# Altium integrated library Linear Technology Power Management Hot Swap Controllers.IntLib: 992 symbols (part 30 of 93)
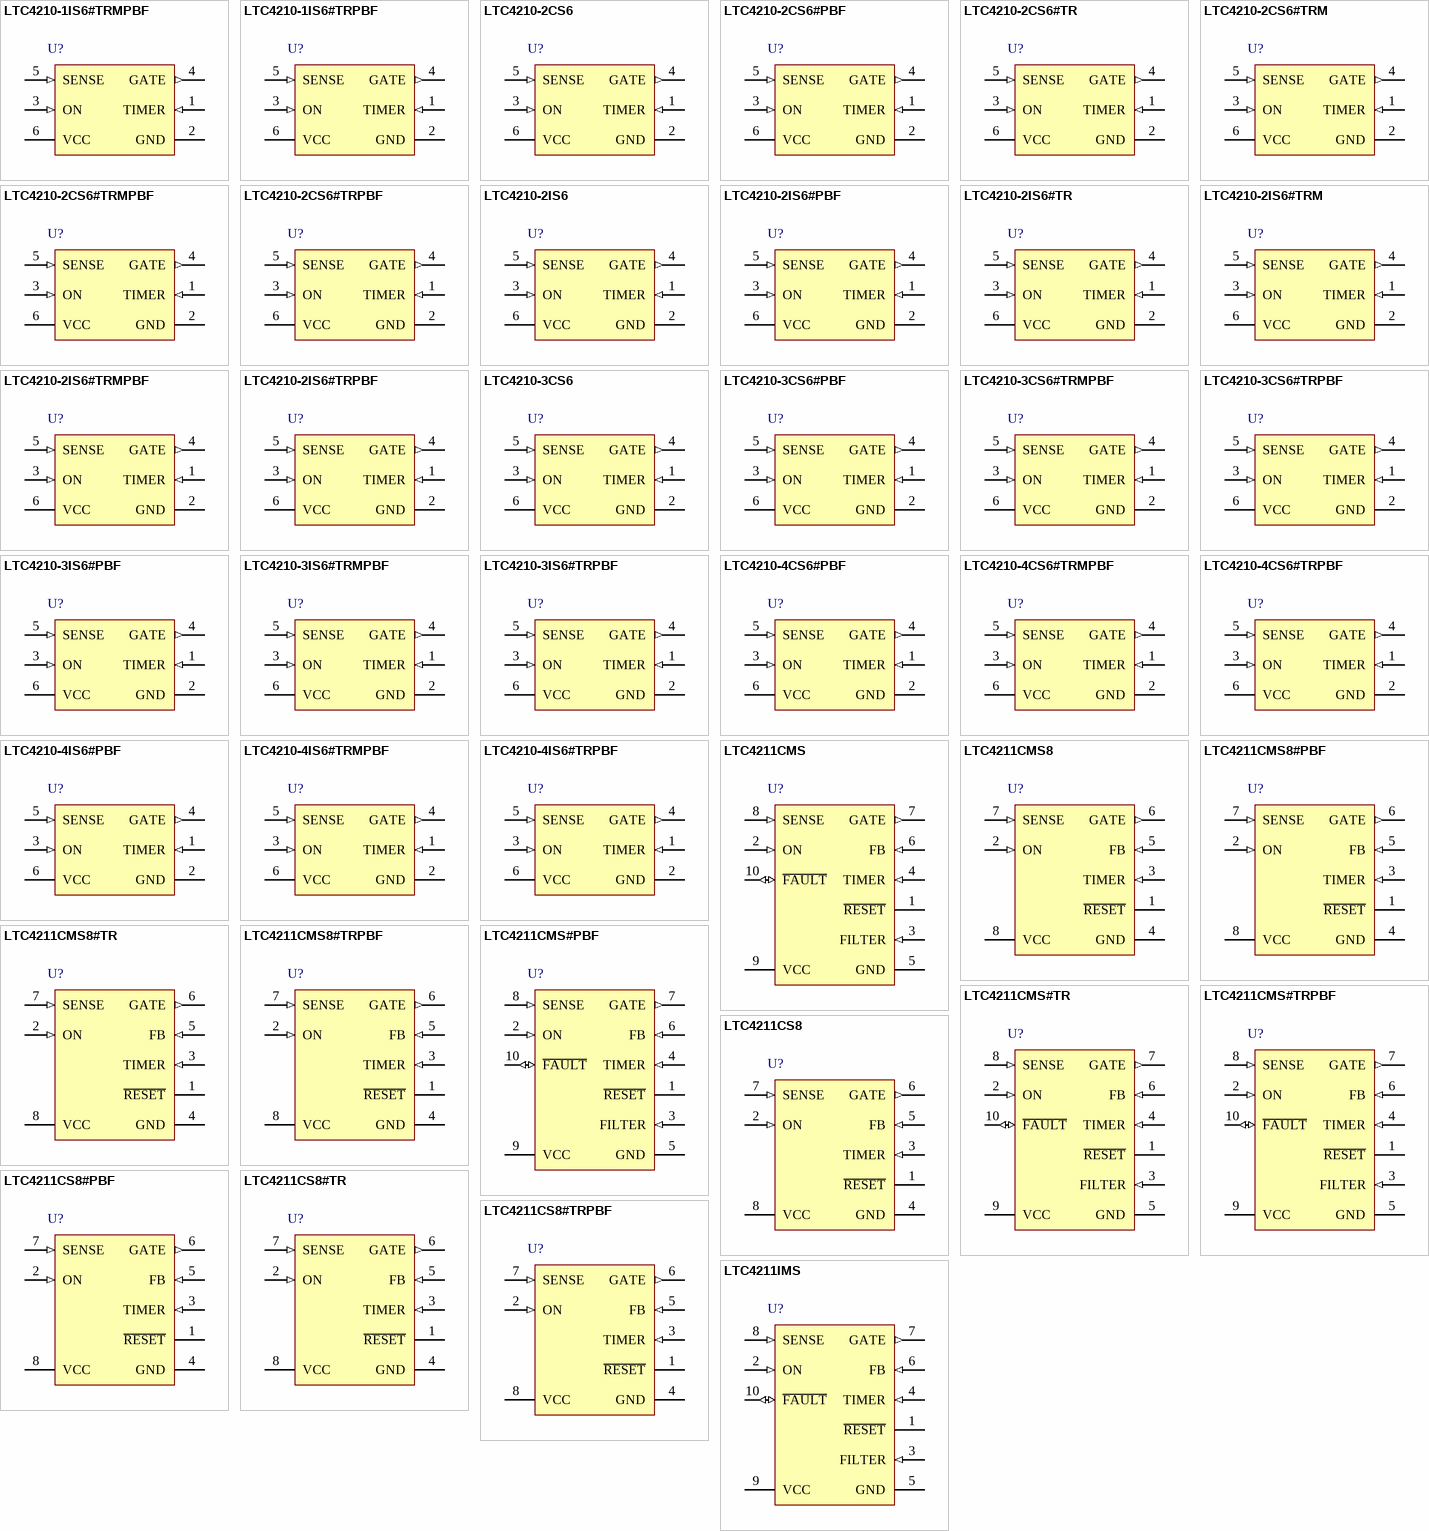
[diagram p66: symbols LTC4210-1IS6#TRMPBF to LTC4211IMS]

## LTC4210-3CS6#TRMPBF
designator U?
Hot Swap Controller, 2.7 to 7 V Vin, 6-pin SOT23 (S6-6), 0 to 70 degC, Pb-Free, Mini Tape and Reel; Manufacturer: Linear Technology; PartNumber: LTC4210-3CS6#TRMPBF; Active Limiting: yes; Circuit Breaker Accuracy(%): 12; Circuit Breaker Threshold: 50 mV; Circuit Breakers(#): 1; Extended Temp: C, I; Foldback: no; DatasheetVersion: Rev. A; PackageVersion: Jun-10; PackageReference: S6-6; PackageDescription: 6-Pin Plastic TSOT-23, Body 2.9 x 1.63 mm, Pitch 0.95 mm; Supplier 1: Digi-Key; Supplier Part Number 1: LTC4210-3CS6#TRMPBF-ND; Supplier 2: Newark; Supplier Part Number 2: 56M8753; Fast Comparator: yes; Fault: yes; Packing: Mini Tape and Reel; Power Good: no; Reset: yes; RoHS: TRUE; Vin Range: 2.7 to 7 V; Mounting Technology: Surface Mount; Code_JEDEC: MO-193; ComponentLink1Description: Manufacturer URL; ComponentLink1URL: http://www.linear.com/; ComponentLink2Description: Datasheet; ComponentLink2URL: http://cds.linear.com/docs/en/datasheet/421034fa.pdf; ComponentLink3Description: Package Specification; ComponentLink3URL: http://cds.linear.com/docs/en/packaging/SOT_6_05-08-1636.pdf
footprint LT-S6-6-TSOT-23_N (SOT23, 6-Leads, Body 2.9x1.75mm, Pitch 0.95mm, IPC Medium Density)
footprint LT-S6-6-TSOT-23_L (SOT23, 6-Leads, Body 2.9x1.75mm, Pitch 0.95mm, IPC High Density)
footprint LT-S6-6-TSOT-23_M (SOT23, 6-Leads, Body 2.9x1.75mm, Pitch 0.95mm, IPC Low Density)
pins: 1 TIMER (in) "Timer Input Pin. An external capacitor CTIMER sets a 272.9ms/µF initial timing delay and a 21.7ms/µF circuit breaker delay. (See Datasheet)", 2 GND (power) "GND (Pin 2): Ground Pin.", 3 ON (in) "ON (Pin 3): ON Input Pin. The ON pin comparator has a low-to-high threshold of 1.3V with 80mV hysteresis and a glitch filter. When the ON pin is low, the LTC4210 is reset. When the ON pin goes high, the GATE turns on after (See Datasheet)", 4 GATE (out) "GATE Output Pin. This pin is the high side gate drive of an external N-channel MOSFET. An internal charge pump provides a 10µA pull-up current with Zener clamps to VCC and ground. (See Datasheet)", 5 SENSE (in) "SENSE (Pin 5): Current Limit Sense Input Pin. A sense resistor between the VCC and SENSE pins sets the analog current limit. In overload, the EA controls the external MOSFET gate to maintain the SENSE pin voltage at 50mV (See Datasheet)", 6 VCC (power) "Positive Supply Input Pin. The operating supply voltage range is between 2.7V to 7V. An undervoltage lockout (UVLO) circuit with a glitch filter resets the LTC4210 when a low supply voltage is detected. (See Datasheet)"

## LTC4210-3CS6#TRPBF
designator U?
Hot Swap Controller, 2.7 to 7 V Vin, 6-pin SOT23 (S6-6), 0 to 70 degC, Pb-Free, Tape and Reel; Manufacturer: Linear Technology; PartNumber: LTC4210-3CS6#TRPBF; Active Limiting: yes; Circuit Breaker Accuracy(%): 12; Circuit Breaker Threshold: 50 mV; Circuit Breakers(#): 1; Extended Temp: C, I; Foldback: no; DatasheetVersion: Rev. A; PackageVersion: Jun-10; PackageReference: S6-6; PackageDescription: 6-Pin Plastic TSOT-23, Body 2.9 x 1.63 mm, Pitch 0.95 mm; Supplier 1: Digi-Key; Supplier Part Number 1: LTC4210-3CS6#TRPBF-ND; Fast Comparator: yes; Fault: yes; Packing: Tape and Reel; Power Good: no; Reset: yes; RoHS: TRUE; Vin Range: 2.7 to 7 V; Mounting Technology: Surface Mount; Code_JEDEC: MO-193; ComponentLink1Description: Manufacturer URL; ComponentLink1URL: http://www.linear.com/; ComponentLink2Description: Datasheet; ComponentLink2URL: http://cds.linear.com/docs/en/datasheet/421034fa.pdf; ComponentLink3Description: Package Specification; ComponentLink3URL: http://cds.linear.com/docs/en/packaging/SOT_6_05-08-1636.pdf
footprint LT-S6-6-TSOT-23_N (SOT23, 6-Leads, Body 2.9x1.75mm, Pitch 0.95mm, IPC Medium Density)
footprint LT-S6-6-TSOT-23_L (SOT23, 6-Leads, Body 2.9x1.75mm, Pitch 0.95mm, IPC High Density)
footprint LT-S6-6-TSOT-23_M (SOT23, 6-Leads, Body 2.9x1.75mm, Pitch 0.95mm, IPC Low Density)
pins: 1 TIMER (in) "Timer Input Pin. An external capacitor CTIMER sets a 272.9ms/µF initial timing delay and a 21.7ms/µF circuit breaker delay. (See Datasheet)", 2 GND (power) "GND (Pin 2): Ground Pin.", 3 ON (in) "ON (Pin 3): ON Input Pin. The ON pin comparator has a low-to-high threshold of 1.3V with 80mV hysteresis and a glitch filter. When the ON pin is low, the LTC4210 is reset. When the ON pin goes high, the GATE turns on after (See Datasheet)", 4 GATE (out) "GATE Output Pin. This pin is the high side gate drive of an external N-channel MOSFET. An internal charge pump provides a 10µA pull-up current with Zener clamps to VCC and ground. (See Datasheet)", 5 SENSE (in) "SENSE (Pin 5): Current Limit Sense Input Pin. A sense resistor between the VCC and SENSE pins sets the analog current limit. In overload, the EA controls the external MOSFET gate to maintain the SENSE pin voltage at 50mV (See Datasheet)", 6 VCC (power) "Positive Supply Input Pin. The operating supply voltage range is between 2.7V to 7V. An undervoltage lockout (UVLO) circuit with a glitch filter resets the LTC4210 when a low supply voltage is detected. (See Datasheet)"

## LTC4210-3IS6#PBF
designator U?
Hot Swap Controller, 2.7 to 7 V Vin, 6-pin SOT23 (S6-6), -40 to 85 degC, Pb-Free; Manufacturer: Linear Technology; PartNumber: LTC4210-3IS6#PBF; Active Limiting: yes; Circuit Breaker Accuracy(%): 12; Circuit Breaker Threshold: 50 mV; Circuit Breakers(#): 1; Extended Temp: C, I; Foldback: no; DatasheetVersion: Rev. A; PackageVersion: Jun-10; PackageReference: S6-6; PackageDescription: 6-Pin Plastic TSOT-23, Body 2.9 x 1.63 mm, Pitch 0.95 mm; Fast Comparator: yes; Fault: yes; Power Good: no; Reset: yes; RoHS: TRUE; Vin Range: 2.7 to 7 V; Mounting Technology: Surface Mount; Code_JEDEC: MO-193; ComponentLink1Description: Manufacturer URL; ComponentLink1URL: http://www.linear.com/; ComponentLink2Description: Datasheet; ComponentLink2URL: http://cds.linear.com/docs/en/datasheet/421034fa.pdf; ComponentLink3Description: Package Specification; ComponentLink3URL: http://cds.linear.com/docs/en/packaging/SOT_6_05-08-1636.pdf
footprint LT-S6-6-TSOT-23_N (SOT23, 6-Leads, Body 2.9x1.75mm, Pitch 0.95mm, IPC Medium Density)
footprint LT-S6-6-TSOT-23_L (SOT23, 6-Leads, Body 2.9x1.75mm, Pitch 0.95mm, IPC High Density)
footprint LT-S6-6-TSOT-23_M (SOT23, 6-Leads, Body 2.9x1.75mm, Pitch 0.95mm, IPC Low Density)
pins: 1 TIMER (in) "Timer Input Pin. An external capacitor CTIMER sets a 272.9ms/µF initial timing delay and a 21.7ms/µF circuit breaker delay. (See Datasheet)", 2 GND (power) "GND (Pin 2): Ground Pin.", 3 ON (in) "ON (Pin 3): ON Input Pin. The ON pin comparator has a low-to-high threshold of 1.3V with 80mV hysteresis and a glitch filter. When the ON pin is low, the LTC4210 is reset. When the ON pin goes high, the GATE turns on after (See Datasheet)", 4 GATE (out) "GATE Output Pin. This pin is the high side gate drive of an external N-channel MOSFET. An internal charge pump provides a 10µA pull-up current with Zener clamps to VCC and ground. (See Datasheet)", 5 SENSE (in) "SENSE (Pin 5): Current Limit Sense Input Pin. A sense resistor between the VCC and SENSE pins sets the analog current limit. In overload, the EA controls the external MOSFET gate to maintain the SENSE pin voltage at 50mV (See Datasheet)", 6 VCC (power) "Positive Supply Input Pin. The operating supply voltage range is between 2.7V to 7V. An undervoltage lockout (UVLO) circuit with a glitch filter resets the LTC4210 when a low supply voltage is detected. (See Datasheet)"

## LTC4210-3IS6#TRMPBF
designator U?
Hot Swap Controller, 2.7 to 7 V Vin, 6-pin SOT23 (S6-6), -40 to 85 degC, Pb-Free, Mini Tape and Reel; Manufacturer: Linear Technology; PartNumber: LTC4210-3IS6#TRMPBF; Active Limiting: yes; Circuit Breaker Accuracy(%): 12; Circuit Breaker Threshold: 50 mV; Circuit Breakers(#): 1; Extended Temp: C, I; Foldback: no; DatasheetVersion: Rev. A; PackageVersion: Jun-10; PackageReference: S6-6; PackageDescription: 6-Pin Plastic TSOT-23, Body 2.9 x 1.63 mm, Pitch 0.95 mm; Supplier 1: Digi-Key; Supplier Part Number 1: LTC4210-3IS6#TRMPBF-ND; Fast Comparator: yes; Fault: yes; Packing: Mini Tape and Reel; Power Good: no; Reset: yes; RoHS: TRUE; Vin Range: 2.7 to 7 V; Mounting Technology: Surface Mount; Code_JEDEC: MO-193; ComponentLink1Description: Manufacturer URL; ComponentLink1URL: http://www.linear.com/; ComponentLink2Description: Datasheet; ComponentLink2URL: http://cds.linear.com/docs/en/datasheet/421034fa.pdf; ComponentLink3Description: Package Specification; ComponentLink3URL: http://cds.linear.com/docs/en/packaging/SOT_6_05-08-1636.pdf
footprint LT-S6-6-TSOT-23_N (SOT23, 6-Leads, Body 2.9x1.75mm, Pitch 0.95mm, IPC Medium Density)
footprint LT-S6-6-TSOT-23_L (SOT23, 6-Leads, Body 2.9x1.75mm, Pitch 0.95mm, IPC High Density)
footprint LT-S6-6-TSOT-23_M (SOT23, 6-Leads, Body 2.9x1.75mm, Pitch 0.95mm, IPC Low Density)
pins: 1 TIMER (in) "Timer Input Pin. An external capacitor CTIMER sets a 272.9ms/µF initial timing delay and a 21.7ms/µF circuit breaker delay. (See Datasheet)", 2 GND (power) "GND (Pin 2): Ground Pin.", 3 ON (in) "ON (Pin 3): ON Input Pin. The ON pin comparator has a low-to-high threshold of 1.3V with 80mV hysteresis and a glitch filter. When the ON pin is low, the LTC4210 is reset. When the ON pin goes high, the GATE turns on after (See Datasheet)", 4 GATE (out) "GATE Output Pin. This pin is the high side gate drive of an external N-channel MOSFET. An internal charge pump provides a 10µA pull-up current with Zener clamps to VCC and ground. (See Datasheet)", 5 SENSE (in) "SENSE (Pin 5): Current Limit Sense Input Pin. A sense resistor between the VCC and SENSE pins sets the analog current limit. In overload, the EA controls the external MOSFET gate to maintain the SENSE pin voltage at 50mV (See Datasheet)", 6 VCC (power) "Positive Supply Input Pin. The operating supply voltage range is between 2.7V to 7V. An undervoltage lockout (UVLO) circuit with a glitch filter resets the LTC4210 when a low supply voltage is detected. (See Datasheet)"

## LTC4210-3IS6#TRPBF
designator U?
Hot Swap Controller, 2.7 to 7 V Vin, 6-pin SOT23 (S6-6), -40 to 85 degC, Pb-Free, Tape and Reel; Manufacturer: Linear Technology; PartNumber: LTC4210-3IS6#TRPBF; Active Limiting: yes; Circuit Breaker Accuracy(%): 12; Circuit Breaker Threshold: 50 mV; Circuit Breakers(#): 1; Extended Temp: C, I; Foldback: no; DatasheetVersion: Rev. A; PackageVersion: Jun-10; PackageReference: S6-6; PackageDescription: 6-Pin Plastic TSOT-23, Body 2.9 x 1.63 mm, Pitch 0.95 mm; Supplier 1: Digi-Key; Supplier Part Number 1: LTC4210-3IS6#TRPBF-ND; Supplier 2: Newark; Supplier Part Number 2: 56M8758; Fast Comparator: yes; Fault: yes; Packing: Tape and Reel; Power Good: no; Reset: yes; RoHS: TRUE; Vin Range: 2.7 to 7 V; Mounting Technology: Surface Mount; Code_JEDEC: MO-193; ComponentLink1Description: Manufacturer URL; ComponentLink1URL: http://www.linear.com/; ComponentLink2Description: Datasheet; ComponentLink2URL: http://cds.linear.com/docs/en/datasheet/421034fa.pdf; ComponentLink3Description: Package Specification; ComponentLink3URL: http://cds.linear.com/docs/en/packaging/SOT_6_05-08-1636.pdf
footprint LT-S6-6-TSOT-23_N (SOT23, 6-Leads, Body 2.9x1.75mm, Pitch 0.95mm, IPC Medium Density)
footprint LT-S6-6-TSOT-23_L (SOT23, 6-Leads, Body 2.9x1.75mm, Pitch 0.95mm, IPC High Density)
footprint LT-S6-6-TSOT-23_M (SOT23, 6-Leads, Body 2.9x1.75mm, Pitch 0.95mm, IPC Low Density)
pins: 1 TIMER (in) "Timer Input Pin. An external capacitor CTIMER sets a 272.9ms/µF initial timing delay and a 21.7ms/µF circuit breaker delay. (See Datasheet)", 2 GND (power) "GND (Pin 2): Ground Pin.", 3 ON (in) "ON (Pin 3): ON Input Pin. The ON pin comparator has a low-to-high threshold of 1.3V with 80mV hysteresis and a glitch filter. When the ON pin is low, the LTC4210 is reset. When the ON pin goes high, the GATE turns on after (See Datasheet)", 4 GATE (out) "GATE Output Pin. This pin is the high side gate drive of an external N-channel MOSFET. An internal charge pump provides a 10µA pull-up current with Zener clamps to VCC and ground. (See Datasheet)", 5 SENSE (in) "SENSE (Pin 5): Current Limit Sense Input Pin. A sense resistor between the VCC and SENSE pins sets the analog current limit. In overload, the EA controls the external MOSFET gate to maintain the SENSE pin voltage at 50mV (See Datasheet)", 6 VCC (power) "Positive Supply Input Pin. The operating supply voltage range is between 2.7V to 7V. An undervoltage lockout (UVLO) circuit with a glitch filter resets the LTC4210 when a low supply voltage is detected. (See Datasheet)"

## LTC4210-4CS6#PBF
designator U?
Hot Swap Controller, 2.7 to 7 V Vin, 6-pin SOT23 (S6-6), 0 to 70 degC, Pb-Free; Manufacturer: Linear Technology; PartNumber: LTC4210-4CS6#PBF; Active Limiting: yes; Circuit Breaker Accuracy(%): 12; Circuit Breaker Threshold: 50 mV; Circuit Breakers(#): 1; Extended Temp: C, I; Foldback: no; DatasheetVersion: Rev. A; PackageVersion: Jun-10; PackageReference: S6-6; PackageDescription: 6-Pin Plastic TSOT-23, Body 2.9 x 1.63 mm, Pitch 0.95 mm; Fast Comparator: yes; Fault: yes; Power Good: no; Reset: yes; RoHS: TRUE; Vin Range: 2.7 to 7 V; Mounting Technology: Surface Mount; Code_JEDEC: MO-193; ComponentLink1Description: Manufacturer URL; ComponentLink1URL: http://www.linear.com/; ComponentLink2Description: Datasheet; ComponentLink2URL: http://cds.linear.com/docs/en/datasheet/421034fa.pdf; ComponentLink3Description: Package Specification; ComponentLink3URL: http://cds.linear.com/docs/en/packaging/SOT_6_05-08-1636.pdf
footprint LT-S6-6-TSOT-23_N (SOT23, 6-Leads, Body 2.9x1.75mm, Pitch 0.95mm, IPC Medium Density)
footprint LT-S6-6-TSOT-23_L (SOT23, 6-Leads, Body 2.9x1.75mm, Pitch 0.95mm, IPC High Density)
footprint LT-S6-6-TSOT-23_M (SOT23, 6-Leads, Body 2.9x1.75mm, Pitch 0.95mm, IPC Low Density)
pins: 1 TIMER (in) "Timer Input Pin. An external capacitor CTIMER sets a 272.9ms/µF initial timing delay and a 21.7ms/µF circuit breaker delay. (See Datasheet)", 2 GND (power) "GND (Pin 2): Ground Pin.", 3 ON (in) "ON (Pin 3): ON Input Pin. The ON pin comparator has a low-to-high threshold of 1.3V with 80mV hysteresis and a glitch filter. When the ON pin is low, the LTC4210 is reset. When the ON pin goes high, the GATE turns on after (See Datasheet)", 4 GATE (out) "GATE Output Pin. This pin is the high side gate drive of an external N-channel MOSFET. An internal charge pump provides a 10µA pull-up current with Zener clamps to VCC and ground. (See Datasheet)", 5 SENSE (in) "SENSE (Pin 5): Current Limit Sense Input Pin. A sense resistor between the VCC and SENSE pins sets the analog current limit. In overload, the EA controls the external MOSFET gate to maintain the SENSE pin voltage at 50mV (See Datasheet)", 6 VCC (power) "Positive Supply Input Pin. The operating supply voltage range is between 2.7V to 7V. An undervoltage lockout (UVLO) circuit with a glitch filter resets the LTC4210 when a low supply voltage is detected. (See Datasheet)"

## LTC4210-4CS6#TRMPBF
designator U?
Hot Swap Controller, 2.7 to 7 V Vin, 6-pin SOT23 (S6-6), 0 to 70 degC, Pb-Free, Mini Tape and Reel; Manufacturer: Linear Technology; PartNumber: LTC4210-4CS6#TRMPBF; Active Limiting: yes; Circuit Breaker Accuracy(%): 12; Circuit Breaker Threshold: 50 mV; Circuit Breakers(#): 1; Extended Temp: C, I; Foldback: no; DatasheetVersion: Rev. A; PackageVersion: Jun-10; PackageReference: S6-6; PackageDescription: 6-Pin Plastic TSOT-23, Body 2.9 x 1.63 mm, Pitch 0.95 mm; Supplier 1: Digi-Key; Supplier Part Number 1: LTC4210-4CS6#TRMPBF-ND; Fast Comparator: yes; Fault: yes; Packing: Mini Tape and Reel; Power Good: no; Reset: yes; RoHS: TRUE; Vin Range: 2.7 to 7 V; Mounting Technology: Surface Mount; Code_JEDEC: MO-193; ComponentLink1Description: Manufacturer URL; ComponentLink1URL: http://www.linear.com/; ComponentLink2Description: Datasheet; ComponentLink2URL: http://cds.linear.com/docs/en/datasheet/421034fa.pdf; ComponentLink3Description: Package Specification; ComponentLink3URL: http://cds.linear.com/docs/en/packaging/SOT_6_05-08-1636.pdf
footprint LT-S6-6-TSOT-23_N (SOT23, 6-Leads, Body 2.9x1.75mm, Pitch 0.95mm, IPC Medium Density)
footprint LT-S6-6-TSOT-23_L (SOT23, 6-Leads, Body 2.9x1.75mm, Pitch 0.95mm, IPC High Density)
footprint LT-S6-6-TSOT-23_M (SOT23, 6-Leads, Body 2.9x1.75mm, Pitch 0.95mm, IPC Low Density)
pins: 1 TIMER (in) "Timer Input Pin. An external capacitor CTIMER sets a 272.9ms/µF initial timing delay and a 21.7ms/µF circuit breaker delay. (See Datasheet)", 2 GND (power) "GND (Pin 2): Ground Pin.", 3 ON (in) "ON (Pin 3): ON Input Pin. The ON pin comparator has a low-to-high threshold of 1.3V with 80mV hysteresis and a glitch filter. When the ON pin is low, the LTC4210 is reset. When the ON pin goes high, the GATE turns on after (See Datasheet)", 4 GATE (out) "GATE Output Pin. This pin is the high side gate drive of an external N-channel MOSFET. An internal charge pump provides a 10µA pull-up current with Zener clamps to VCC and ground. (See Datasheet)", 5 SENSE (in) "SENSE (Pin 5): Current Limit Sense Input Pin. A sense resistor between the VCC and SENSE pins sets the analog current limit. In overload, the EA controls the external MOSFET gate to maintain the SENSE pin voltage at 50mV (See Datasheet)", 6 VCC (power) "Positive Supply Input Pin. The operating supply voltage range is between 2.7V to 7V. An undervoltage lockout (UVLO) circuit with a glitch filter resets the LTC4210 when a low supply voltage is detected. (See Datasheet)"

## LTC4210-4CS6#TRPBF
designator U?
Hot Swap Controller, 2.7 to 7 V Vin, 6-pin SOT23 (S6-6), 0 to 70 degC, Pb-Free, Tape and Reel; Manufacturer: Linear Technology; PartNumber: LTC4210-4CS6#TRPBF; Active Limiting: yes; Circuit Breaker Accuracy(%): 12; Circuit Breaker Threshold: 50 mV; Circuit Breakers(#): 1; Extended Temp: C, I; Foldback: no; DatasheetVersion: Rev. A; PackageVersion: Jun-10; PackageReference: S6-6; PackageDescription: 6-Pin Plastic TSOT-23, Body 2.9 x 1.63 mm, Pitch 0.95 mm; Supplier 1: Digi-Key; Supplier Part Number 1: LTC4210-4CS6#TRPBF-ND; Fast Comparator: yes; Fault: yes; Packing: Tape and Reel; Power Good: no; Reset: yes; RoHS: TRUE; Vin Range: 2.7 to 7 V; Mounting Technology: Surface Mount; Code_JEDEC: MO-193; ComponentLink1Description: Manufacturer URL; ComponentLink1URL: http://www.linear.com/; ComponentLink2Description: Datasheet; ComponentLink2URL: http://cds.linear.com/docs/en/datasheet/421034fa.pdf; ComponentLink3Description: Package Specification; ComponentLink3URL: http://cds.linear.com/docs/en/packaging/SOT_6_05-08-1636.pdf
footprint LT-S6-6-TSOT-23_N (SOT23, 6-Leads, Body 2.9x1.75mm, Pitch 0.95mm, IPC Medium Density)
footprint LT-S6-6-TSOT-23_L (SOT23, 6-Leads, Body 2.9x1.75mm, Pitch 0.95mm, IPC High Density)
footprint LT-S6-6-TSOT-23_M (SOT23, 6-Leads, Body 2.9x1.75mm, Pitch 0.95mm, IPC Low Density)
pins: 1 TIMER (in) "Timer Input Pin. An external capacitor CTIMER sets a 272.9ms/µF initial timing delay and a 21.7ms/µF circuit breaker delay. (See Datasheet)", 2 GND (power) "GND (Pin 2): Ground Pin.", 3 ON (in) "ON (Pin 3): ON Input Pin. The ON pin comparator has a low-to-high threshold of 1.3V with 80mV hysteresis and a glitch filter. When the ON pin is low, the LTC4210 is reset. When the ON pin goes high, the GATE turns on after (See Datasheet)", 4 GATE (out) "GATE Output Pin. This pin is the high side gate drive of an external N-channel MOSFET. An internal charge pump provides a 10µA pull-up current with Zener clamps to VCC and ground. (See Datasheet)", 5 SENSE (in) "SENSE (Pin 5): Current Limit Sense Input Pin. A sense resistor between the VCC and SENSE pins sets the analog current limit. In overload, the EA controls the external MOSFET gate to maintain the SENSE pin voltage at 50mV (See Datasheet)", 6 VCC (power) "Positive Supply Input Pin. The operating supply voltage range is between 2.7V to 7V. An undervoltage lockout (UVLO) circuit with a glitch filter resets the LTC4210 when a low supply voltage is detected. (See Datasheet)"

## LTC4210-4IS6#PBF
designator U?
Hot Swap Controller, 2.7 to 7 V Vin, 6-pin SOT23 (S6-6), -40 to 85 degC, Pb-Free; Manufacturer: Linear Technology; PartNumber: LTC4210-4IS6#PBF; Active Limiting: yes; Circuit Breaker Accuracy(%): 12; Circuit Breaker Threshold: 50 mV; Circuit Breakers(#): 1; Extended Temp: C, I; Foldback: no; DatasheetVersion: Rev. A; PackageVersion: Jun-10; PackageReference: S6-6; PackageDescription: 6-Pin Plastic TSOT-23, Body 2.9 x 1.63 mm, Pitch 0.95 mm; Fast Comparator: yes; Fault: yes; Power Good: no; Reset: yes; RoHS: TRUE; Vin Range: 2.7 to 7 V; Mounting Technology: Surface Mount; Code_JEDEC: MO-193; ComponentLink1Description: Manufacturer URL; ComponentLink1URL: http://www.linear.com/; ComponentLink2Description: Datasheet; ComponentLink2URL: http://cds.linear.com/docs/en/datasheet/421034fa.pdf; ComponentLink3Description: Package Specification; ComponentLink3URL: http://cds.linear.com/docs/en/packaging/SOT_6_05-08-1636.pdf
footprint LT-S6-6-TSOT-23_N (SOT23, 6-Leads, Body 2.9x1.75mm, Pitch 0.95mm, IPC Medium Density)
footprint LT-S6-6-TSOT-23_L (SOT23, 6-Leads, Body 2.9x1.75mm, Pitch 0.95mm, IPC High Density)
footprint LT-S6-6-TSOT-23_M (SOT23, 6-Leads, Body 2.9x1.75mm, Pitch 0.95mm, IPC Low Density)
pins: 1 TIMER (in) "Timer Input Pin. An external capacitor CTIMER sets a 272.9ms/µF initial timing delay and a 21.7ms/µF circuit breaker delay. (See Datasheet)", 2 GND (power) "GND (Pin 2): Ground Pin.", 3 ON (in) "ON (Pin 3): ON Input Pin. The ON pin comparator has a low-to-high threshold of 1.3V with 80mV hysteresis and a glitch filter. When the ON pin is low, the LTC4210 is reset. When the ON pin goes high, the GATE turns on after (See Datasheet)", 4 GATE (out) "GATE Output Pin. This pin is the high side gate drive of an external N-channel MOSFET. An internal charge pump provides a 10µA pull-up current with Zener clamps to VCC and ground. (See Datasheet)", 5 SENSE (in) "SENSE (Pin 5): Current Limit Sense Input Pin. A sense resistor between the VCC and SENSE pins sets the analog current limit. In overload, the EA controls the external MOSFET gate to maintain the SENSE pin voltage at 50mV (See Datasheet)", 6 VCC (power) "Positive Supply Input Pin. The operating supply voltage range is between 2.7V to 7V. An undervoltage lockout (UVLO) circuit with a glitch filter resets the LTC4210 when a low supply voltage is detected. (See Datasheet)"

## LTC4210-4IS6#TRMPBF
designator U?
Hot Swap Controller, 2.7 to 7 V Vin, 6-pin SOT23 (S6-6), -40 to 85 degC, Pb-Free, Mini Tape and Reel; Manufacturer: Linear Technology; PartNumber: LTC4210-4IS6#TRMPBF; Active Limiting: yes; Circuit Breaker Accuracy(%): 12; Circuit Breaker Threshold: 50 mV; Circuit Breakers(#): 1; Extended Temp: C, I; Foldback: no; DatasheetVersion: Rev. A; PackageVersion: Jun-10; PackageReference: S6-6; PackageDescription: 6-Pin Plastic TSOT-23, Body 2.9 x 1.63 mm, Pitch 0.95 mm; Supplier 1: Digi-Key; Supplier Part Number 1: LTC4210-4IS6#TRMPBF-ND; Fast Comparator: yes; Fault: yes; Packing: Mini Tape and Reel; Power Good: no; Reset: yes; RoHS: TRUE; Vin Range: 2.7 to 7 V; Mounting Technology: Surface Mount; Code_JEDEC: MO-193; ComponentLink1Description: Manufacturer URL; ComponentLink1URL: http://www.linear.com/; ComponentLink2Description: Datasheet; ComponentLink2URL: http://cds.linear.com/docs/en/datasheet/421034fa.pdf; ComponentLink3Description: Package Specification; ComponentLink3URL: http://cds.linear.com/docs/en/packaging/SOT_6_05-08-1636.pdf
footprint LT-S6-6-TSOT-23_N (SOT23, 6-Leads, Body 2.9x1.75mm, Pitch 0.95mm, IPC Medium Density)
footprint LT-S6-6-TSOT-23_L (SOT23, 6-Leads, Body 2.9x1.75mm, Pitch 0.95mm, IPC High Density)
footprint LT-S6-6-TSOT-23_M (SOT23, 6-Leads, Body 2.9x1.75mm, Pitch 0.95mm, IPC Low Density)
pins: 1 TIMER (in) "Timer Input Pin. An external capacitor CTIMER sets a 272.9ms/µF initial timing delay and a 21.7ms/µF circuit breaker delay. (See Datasheet)", 2 GND (power) "GND (Pin 2): Ground Pin.", 3 ON (in) "ON (Pin 3): ON Input Pin. The ON pin comparator has a low-to-high threshold of 1.3V with 80mV hysteresis and a glitch filter. When the ON pin is low, the LTC4210 is reset. When the ON pin goes high, the GATE turns on after (See Datasheet)", 4 GATE (out) "GATE Output Pin. This pin is the high side gate drive of an external N-channel MOSFET. An internal charge pump provides a 10µA pull-up current with Zener clamps to VCC and ground. (See Datasheet)", 5 SENSE (in) "SENSE (Pin 5): Current Limit Sense Input Pin. A sense resistor between the VCC and SENSE pins sets the analog current limit. In overload, the EA controls the external MOSFET gate to maintain the SENSE pin voltage at 50mV (See Datasheet)", 6 VCC (power) "Positive Supply Input Pin. The operating supply voltage range is between 2.7V to 7V. An undervoltage lockout (UVLO) circuit with a glitch filter resets the LTC4210 when a low supply voltage is detected. (See Datasheet)"

## LTC4210-4IS6#TRPBF
designator U?
Hot Swap Controller, 2.7 to 7 V Vin, 6-pin SOT23 (S6-6), -40 to 85 degC, Pb-Free, Tape and Reel; Manufacturer: Linear Technology; PartNumber: LTC4210-4IS6#TRPBF; Active Limiting: yes; Circuit Breaker Accuracy(%): 12; Circuit Breaker Threshold: 50 mV; Circuit Breakers(#): 1; Extended Temp: C, I; Foldback: no; DatasheetVersion: Rev. A; PackageVersion: Jun-10; PackageReference: S6-6; PackageDescription: 6-Pin Plastic TSOT-23, Body 2.9 x 1.63 mm, Pitch 0.95 mm; Supplier 1: Digi-Key; Supplier Part Number 1: LTC4210-4IS6#TRPBF-ND; Fast Comparator: yes; Fault: yes; Packing: Tape and Reel; Power Good: no; Reset: yes; RoHS: TRUE; Vin Range: 2.7 to 7 V; Mounting Technology: Surface Mount; Code_JEDEC: MO-193; ComponentLink1Description: Manufacturer URL; ComponentLink1URL: http://www.linear.com/; ComponentLink2Description: Datasheet; ComponentLink2URL: http://cds.linear.com/docs/en/datasheet/421034fa.pdf; ComponentLink3Description: Package Specification; ComponentLink3URL: http://cds.linear.com/docs/en/packaging/SOT_6_05-08-1636.pdf
footprint LT-S6-6-TSOT-23_N (SOT23, 6-Leads, Body 2.9x1.75mm, Pitch 0.95mm, IPC Medium Density)
footprint LT-S6-6-TSOT-23_L (SOT23, 6-Leads, Body 2.9x1.75mm, Pitch 0.95mm, IPC High Density)
footprint LT-S6-6-TSOT-23_M (SOT23, 6-Leads, Body 2.9x1.75mm, Pitch 0.95mm, IPC Low Density)
pins: 1 TIMER (in) "Timer Input Pin. An external capacitor CTIMER sets a 272.9ms/µF initial timing delay and a 21.7ms/µF circuit breaker delay. (See Datasheet)", 2 GND (power) "GND (Pin 2): Ground Pin.", 3 ON (in) "ON (Pin 3): ON Input Pin. The ON pin comparator has a low-to-high threshold of 1.3V with 80mV hysteresis and a glitch filter. When the ON pin is low, the LTC4210 is reset. When the ON pin goes high, the GATE turns on after (See Datasheet)", 4 GATE (out) "GATE Output Pin. This pin is the high side gate drive of an external N-channel MOSFET. An internal charge pump provides a 10µA pull-up current with Zener clamps to VCC and ground. (See Datasheet)", 5 SENSE (in) "SENSE (Pin 5): Current Limit Sense Input Pin. A sense resistor between the VCC and SENSE pins sets the analog current limit. In overload, the EA controls the external MOSFET gate to maintain the SENSE pin voltage at 50mV (See Datasheet)", 6 VCC (power) "Positive Supply Input Pin. The operating supply voltage range is between 2.7V to 7V. An undervoltage lockout (UVLO) circuit with a glitch filter resets the LTC4210 when a low supply voltage is detected. (See Datasheet)"

## LTC4211CMS
designator U?
Hot Swap Controller with Multifunction Current Control, 2.5 to 16.5 V Vin, 10-pin SOP (MS-10), 0 to 70 degC; Manufacturer: Linear Technology; PartNumber: LTC4211CMS; Active Limiting: no; Circuit Breaker Accuracy(%): 20; Circuit Breaker Threshold: 50 mV; Circuit Breakers(#): 1; Extended Temp: C, I; Fast Comparator: yes; In-Rush Current: Active; DatasheetVersion: Rev. B; PackageVersion: Rev. E, 06/2010; PackageReference: MS-10; PackageDescription: 10-Pin Plastic MSOP, Body 3 x 3 mm, Pitch 0.5 mm; Supplier 1: Digi-Key; Supplier Part Number 1: LTC4211CMS-ND; Fault: yes; Foldback: no; Power Good: no; Reset: yes; RoHS: FALSE; Vin Range: 2.5 to 16.5 V; Mounting Technology: Surface Mount; ComponentLink1Description: Manufacturer URL; ComponentLink1URL: http://www.linear.com/; ComponentLink2Description: Datasheet; ComponentLink2URL: http://cds.linear.com/docs/en/datasheet/4211fb.pdf; ComponentLink3Description: Package Specification; ComponentLink3URL: http://cds.linear.com/docs/en/packaging/05081661_F_MS.pdf
footprint LT-MS-10_N (SOP, 10-Leads, Body 3.1x3.1mm, Pitch 0.5mm, IPC Medium Density)
footprint LT-MS-10_L (SOP, 10-Leads, Body 3.1x3.1mm, Pitch 0.5mm, IPC High Density)
footprint LT-MS-10_M (SOP, 10-Leads, Body 3.1x3.1mm, Pitch 0.5mm, IPC Low Density)
pins: 1 ~{RESET} (hiz) "R\E\S\E\T\ (Pin 1/Pin 1): An open-drain output that pulls to GND if the voltage at the FB pin (Pin 5/Pin 6) falls below the FB pin threshold (1.236V). During the start-up cycle, the R\E\S\E\T\ pin goes high impedance at the (See Datasheet)", 2 ON (in) "ON (Pin 2/Pin 2): An active high signal used to enable or disable LTC4211 operation. COMP1’s high-to-low threshold is set at 1.236V and its hysteresis is set at 80mV. If a logic high signal is applied to the ON pin (VON (See Datasheet)", 3 FILTER (in) "FILTER (Not available S8/MS8, Pin 3 MS): Overcurrent Fault Timing Pin and Overvoltage Fault Set pin. With a capacitor connected from this pin to ground, the SLOW COMP’s response time can be adjusted. In the S8/MS8 versio(See Datasheet)", 4 TIMER (in) "TIMER (Pin 3/Pin 4): A capacitor connected from this pin to GND sets the LTC4211’s system timing. The LTC4211’s initial and second start-up timing cycles and its internal “power good?delay time are defined (See Datasheet)", 5 GND (power) "GND (Pin 4/Pin 5): Device Ground Connection. Connect this pin to the system’s analog ground plane.", 6 FB (in) "FB (Pin 5/Pin 6): The FB (Feedback) pin is an input to the COMP2 comparator and monitors the output supply voltage through an external resistor divider. If VFB < 1.236V, the R\E\S\E\T\ pin pulls low. An internal glitch (See Datasheet)", 7 GATE (out) "GATE (Pin 6/Pin 7): The output signal at this pin is the high side gate drive for the external N-channel FET pass transistor. As shown in the Block Diagram, an internal charge pump supplies a 10uA gate current and sufficient (See Datasheet)", 8 SENSE (in) "SENSE (Pin 7/Pin 8): Circuit Breaker Set Pin. With a sense resistor placed in the power path between VCC and SENSE, the LTC4211’s electronic circuit breaker trips if the voltage across the sense resistor exceeds th(See Datasheet)", 9 VCC (power) "VCC (Pin 8/Pin 9): This is the positive supply input to the LTC4211. The LTC4211 operates from 2.5V < VCC < 16.5V, and the supply current is typically 1mA. An internal undervoltage lockout circuit disables the device until (See Datasheet)", 10 ~{FAULT} (io) "F\A\U\L\T\ (Not available on S8/MS8, Pin 10 MS): F\A\U\L\T\ is both an input and an output. Connected to this pin are an analog comparator (COMP6) and an open-drain N-channel FET. During normal operation, if COMP6 is driven (See Datasheet)"

## LTC4211CMS8
designator U?
Hot Swap Controller with Multifunction Current Control, 2.5 to 16.5 V Vin, 8-pin SOP (MS8), 0 to 70 degC; Manufacturer: Linear Technology; PartNumber: LTC4211CMS8; Active Limiting: no; Circuit Breaker Accuracy(%): 20; Circuit Breaker Threshold: 50 mV; Circuit Breakers(#): 1; Extended Temp: C, I; Fast Comparator: yes; In-Rush Current: Active; DatasheetVersion: Rev. B; PackageVersion: Rev. G, 05/2013; PackageReference: MS8; PackageDescription: 8-Pin Plastic MSOP, Body 3 x 3 mm, Pitch 0.65 mm; Supplier 1: Digi-Key; Supplier Part Number 1: LTC4211CMS8-ND; Fault: yes; Foldback: no; Power Good: no; Reset: yes; RoHS: FALSE; Vin Range: 2.5 to 16.5 V; Mounting Technology: Surface Mount; ComponentLink1Description: Manufacturer URL; ComponentLink1URL: http://www.linear.com/; ComponentLink2Description: Datasheet; ComponentLink2URL: http://cds.linear.com/docs/en/datasheet/4211fb.pdf; ComponentLink3Description: Package Specification; ComponentLink3URL: http://cds.linear.com/docs/en/packaging/05081660_G_MS8.pdf
footprint LT-MS8_N (SOP, 8-Leads, Body 3.1x3.1mm, Pitch 0.65mm, IPC Medium Density)
footprint LT-MS8_L (SOP, 8-Leads, Body 3.1x3.1mm, Pitch 0.65mm, IPC High Density)
footprint LT-MS8_M (SOP, 8-Leads, Body 3.1x3.1mm, Pitch 0.65mm, IPC Low Density)
pins: 1 ~{RESET} (hiz) "R\E\S\E\T\ (Pin 1/Pin 1): An open-drain output that pulls to GND if the voltage at the FB pin (Pin 5/Pin 6) falls below the FB pin threshold (1.236V). During the start-up cycle, the R\E\S\E\T\ pin goes high impedance at the (See Datasheet)", 2 ON (in) "ON (Pin 2/Pin 2): An active high signal used to enable or disable LTC4211 operation. COMP1's high-to-low threshold is set at 1.236V and its hysteresis is set at 80mV. If a logic high signal is applied to the ON pin (VON (See Datasheet)", 3 TIMER (in) "TIMER (Pin 3/Pin 4): A capacitor connected from this pin to GND sets the LTC4211's system timing. The LTC4211's initial and second start-up timing cycles and its internal "power good"± delay time are defined (See Datasheet)", 4 GND (power) "GND (Pin 4/Pin 5): Device Ground Connection. Connect this pin to the system's analog ground plane.", 5 FB (in) "FB (Pin 5/Pin 6): The FB (Feedback) pin is an input to the COMP2 comparator and monitors the output supply voltage through an external resistor divider. If VFB < 1.236V, the R\E\S\E\T\ pin pulls low. An internal glitch (See Datasheet)", 6 GATE (out) "GATE (Pin 6/Pin 7): The output signal at this pin is the high side gate drive for the external N-channel FET pass transistor. As shown in the Block Diagram, an internal charge pump supplies a 10uA gate current and sufficient (See Datasheet)", 7 SENSE (in) "SENSE (Pin 7/Pin 8): Circuit Breaker Set Pin. With a sense resistor placed in the power path between VCC and SENSE, the LTC4211's electronic circuit breaker trips if the voltage across the sense resistor exceeds th(See Datasheet)", 8 VCC (power) "VCC (Pin 8/Pin 9): This is the positive supply input to the LTC4211. The LTC4211 operates from 2.5V < VCC < 16.5V, and the supply current is typically 1mA. An internal undervoltage lockout circuit disables the device until (See Datasheet)"

## LTC4211CMS8#PBF
designator U?
Hot Swap Controller with Multifunction Current Control, 2.5 to 16.5 V Vin, 8-pin SOP (MS8), 0 to 70 degC, Pb-Free; Manufacturer: Linear Technology; PartNumber: LTC4211CMS8#PBF; Active Limiting: no; Circuit Breaker Accuracy(%): 20; Circuit Breaker Threshold: 50 mV; Circuit Breakers(#): 1; Extended Temp: C, I; Fast Comparator: yes; In-Rush Current: Active; DatasheetVersion: Rev. B; PackageVersion: Rev. G, 05/2013; PackageReference: MS8; PackageDescription: 8-Pin Plastic MSOP, Body 3 x 3 mm, Pitch 0.65 mm; Supplier 1: Digi-Key; Supplier Part Number 1: LTC4211CMS8#PBF-ND; Supplier 2: Newark; Supplier Part Number 2: 56M8772; Fault: yes; Foldback: no; Power Good: no; Reset: yes; RoHS: TRUE; Vin Range: 2.5 to 16.5 V; Mounting Technology: Surface Mount; ComponentLink1Description: Manufacturer URL; ComponentLink1URL: http://www.linear.com/; ComponentLink2Description: Datasheet; ComponentLink2URL: http://cds.linear.com/docs/en/datasheet/4211fb.pdf; ComponentLink3Description: Package Specification; ComponentLink3URL: http://cds.linear.com/docs/en/packaging/05081660_G_MS8.pdf
footprint LT-MS8_N (SOP, 8-Leads, Body 3.1x3.1mm, Pitch 0.65mm, IPC Medium Density)
footprint LT-MS8_L (SOP, 8-Leads, Body 3.1x3.1mm, Pitch 0.65mm, IPC High Density)
footprint LT-MS8_M (SOP, 8-Leads, Body 3.1x3.1mm, Pitch 0.65mm, IPC Low Density)
pins: 1 ~{RESET} (hiz) "R\E\S\E\T\ (Pin 1/Pin 1): An open-drain output that pulls to GND if the voltage at the FB pin (Pin 5/Pin 6) falls below the FB pin threshold (1.236V). During the start-up cycle, the R\E\S\E\T\ pin goes high impedance at the (See Datasheet)", 2 ON (in) "ON (Pin 2/Pin 2): An active high signal used to enable or disable LTC4211 operation. COMP1's high-to-low threshold is set at 1.236V and its hysteresis is set at 80mV. If a logic high signal is applied to the ON pin (VON (See Datasheet)", 3 TIMER (in) "TIMER (Pin 3/Pin 4): A capacitor connected from this pin to GND sets the LTC4211's system timing. The LTC4211's initial and second start-up timing cycles and its internal "power good"± delay time are defined (See Datasheet)", 4 GND (power) "GND (Pin 4/Pin 5): Device Ground Connection. Connect this pin to the system's analog ground plane.", 5 FB (in) "FB (Pin 5/Pin 6): The FB (Feedback) pin is an input to the COMP2 comparator and monitors the output supply voltage through an external resistor divider. If VFB < 1.236V, the R\E\S\E\T\ pin pulls low. An internal glitch (See Datasheet)", 6 GATE (out) "GATE (Pin 6/Pin 7): The output signal at this pin is the high side gate drive for the external N-channel FET pass transistor. As shown in the Block Diagram, an internal charge pump supplies a 10uA gate current and sufficient (See Datasheet)", 7 SENSE (in) "SENSE (Pin 7/Pin 8): Circuit Breaker Set Pin. With a sense resistor placed in the power path between VCC and SENSE, the LTC4211's electronic circuit breaker trips if the voltage across the sense resistor exceeds th(See Datasheet)", 8 VCC (power) "VCC (Pin 8/Pin 9): This is the positive supply input to the LTC4211. The LTC4211 operates from 2.5V < VCC < 16.5V, and the supply current is typically 1mA. An internal undervoltage lockout circuit disables the device until (See Datasheet)"

## LTC4211CMS8#TR
designator U?
Hot Swap Controller with Multifunction Current Control, 2.5 to 16.5 V Vin, 8-pin SOP (MS8), 0 to 70 degC, Tape and Reel; Manufacturer: Linear Technology; PartNumber: LTC4211CMS8#TR; Active Limiting: no; Circuit Breaker Accuracy(%): 20; Circuit Breaker Threshold: 50 mV; Circuit Breakers(#): 1; Extended Temp: C, I; Fast Comparator: yes; In-Rush Current: Active; DatasheetVersion: Rev. B; PackageVersion: Rev. G, 05/2013; PackageReference: MS8; PackageDescription: 8-Pin Plastic MSOP, Body 3 x 3 mm, Pitch 0.65 mm; Supplier 1: Digi-Key; Supplier Part Number 1: LTC4211CMS8TR-ND; Fault: yes; Foldback: no; Packing: Tape and Reel; Power Good: no; Reset: yes; RoHS: FALSE; Vin Range: 2.5 to 16.5 V; Mounting Technology: Surface Mount; ComponentLink1Description: Manufacturer URL; ComponentLink1URL: http://www.linear.com/; ComponentLink2Description: Datasheet; ComponentLink2URL: http://cds.linear.com/docs/en/datasheet/4211fb.pdf; ComponentLink3Description: Package Specification; ComponentLink3URL: http://cds.linear.com/docs/en/packaging/05081660_G_MS8.pdf
footprint LT-MS8_N (SOP, 8-Leads, Body 3.1x3.1mm, Pitch 0.65mm, IPC Medium Density)
footprint LT-MS8_L (SOP, 8-Leads, Body 3.1x3.1mm, Pitch 0.65mm, IPC High Density)
footprint LT-MS8_M (SOP, 8-Leads, Body 3.1x3.1mm, Pitch 0.65mm, IPC Low Density)
pins: 1 ~{RESET} (hiz) "R\E\S\E\T\ (Pin 1/Pin 1): An open-drain output that pulls to GND if the voltage at the FB pin (Pin 5/Pin 6) falls below the FB pin threshold (1.236V). During the start-up cycle, the R\E\S\E\T\ pin goes high impedance at the (See Datasheet)", 2 ON (in) "ON (Pin 2/Pin 2): An active high signal used to enable or disable LTC4211 operation. COMP1's high-to-low threshold is set at 1.236V and its hysteresis is set at 80mV. If a logic high signal is applied to the ON pin (VON (See Datasheet)", 3 TIMER (in) "TIMER (Pin 3/Pin 4): A capacitor connected from this pin to GND sets the LTC4211's system timing. The LTC4211's initial and second start-up timing cycles and its internal "power good"± delay time are defined (See Datasheet)", 4 GND (power) "GND (Pin 4/Pin 5): Device Ground Connection. Connect this pin to the system's analog ground plane.", 5 FB (in) "FB (Pin 5/Pin 6): The FB (Feedback) pin is an input to the COMP2 comparator and monitors the output supply voltage through an external resistor divider. If VFB < 1.236V, the R\E\S\E\T\ pin pulls low. An internal glitch (See Datasheet)", 6 GATE (out) "GATE (Pin 6/Pin 7): The output signal at this pin is the high side gate drive for the external N-channel FET pass transistor. As shown in the Block Diagram, an internal charge pump supplies a 10uA gate current and sufficient (See Datasheet)", 7 SENSE (in) "SENSE (Pin 7/Pin 8): Circuit Breaker Set Pin. With a sense resistor placed in the power path between VCC and SENSE, the LTC4211's electronic circuit breaker trips if the voltage across the sense resistor exceeds th(See Datasheet)", 8 VCC (power) "VCC (Pin 8/Pin 9): This is the positive supply input to the LTC4211. The LTC4211 operates from 2.5V < VCC < 16.5V, and the supply current is typically 1mA. An internal undervoltage lockout circuit disables the device until (See Datasheet)"

## LTC4211CMS8#TRPBF
designator U?
Hot Swap Controller with Multifunction Current Control, 2.5 to 16.5 V Vin, 8-pin SOP (MS8), 0 to 70 degC, Pb-Free, Tape and Reel; Manufacturer: Linear Technology; PartNumber: LTC4211CMS8#TRPBF; Active Limiting: no; Circuit Breaker Accuracy(%): 20; Circuit Breaker Threshold: 50 mV; Circuit Breakers(#): 1; Extended Temp: C, I; Fast Comparator: yes; In-Rush Current: Active; DatasheetVersion: Rev. B; PackageVersion: Rev. G, 05/2013; PackageReference: MS8; PackageDescription: 8-Pin Plastic MSOP, Body 3 x 3 mm, Pitch 0.65 mm; Supplier 1: Digi-Key; Supplier Part Number 1: LTC4211CMS8#TRPBF-ND; Supplier 2: Newark; Supplier Part Number 2: 56M8774; Fault: yes; Foldback: no; Packing: Tape and Reel; Power Good: no; Reset: yes; RoHS: TRUE; Vin Range: 2.5 to 16.5 V; Mounting Technology: Surface Mount; ComponentLink1Description: Manufacturer URL; ComponentLink1URL: http://www.linear.com/; ComponentLink2Description: Datasheet; ComponentLink2URL: http://cds.linear.com/docs/en/datasheet/4211fb.pdf; ComponentLink3Description: Package Specification; ComponentLink3URL: http://cds.linear.com/docs/en/packaging/05081660_G_MS8.pdf
footprint LT-MS8_N (SOP, 8-Leads, Body 3.1x3.1mm, Pitch 0.65mm, IPC Medium Density)
footprint LT-MS8_L (SOP, 8-Leads, Body 3.1x3.1mm, Pitch 0.65mm, IPC High Density)
footprint LT-MS8_M (SOP, 8-Leads, Body 3.1x3.1mm, Pitch 0.65mm, IPC Low Density)
pins: 1 ~{RESET} (hiz) "R\E\S\E\T\ (Pin 1/Pin 1): An open-drain output that pulls to GND if the voltage at the FB pin (Pin 5/Pin 6) falls below the FB pin threshold (1.236V). During the start-up cycle, the R\E\S\E\T\ pin goes high impedance at the (See Datasheet)", 2 ON (in) "ON (Pin 2/Pin 2): An active high signal used to enable or disable LTC4211 operation. COMP1's high-to-low threshold is set at 1.236V and its hysteresis is set at 80mV. If a logic high signal is applied to the ON pin (VON (See Datasheet)", 3 TIMER (in) "TIMER (Pin 3/Pin 4): A capacitor connected from this pin to GND sets the LTC4211's system timing. The LTC4211's initial and second start-up timing cycles and its internal "power good"± delay time are defined (See Datasheet)", 4 GND (power) "GND (Pin 4/Pin 5): Device Ground Connection. Connect this pin to the system's analog ground plane.", 5 FB (in) "FB (Pin 5/Pin 6): The FB (Feedback) pin is an input to the COMP2 comparator and monitors the output supply voltage through an external resistor divider. If VFB < 1.236V, the R\E\S\E\T\ pin pulls low. An internal glitch (See Datasheet)", 6 GATE (out) "GATE (Pin 6/Pin 7): The output signal at this pin is the high side gate drive for the external N-channel FET pass transistor. As shown in the Block Diagram, an internal charge pump supplies a 10uA gate current and sufficient (See Datasheet)", 7 SENSE (in) "SENSE (Pin 7/Pin 8): Circuit Breaker Set Pin. With a sense resistor placed in the power path between VCC and SENSE, the LTC4211's electronic circuit breaker trips if the voltage across the sense resistor exceeds th(See Datasheet)", 8 VCC (power) "VCC (Pin 8/Pin 9): This is the positive supply input to the LTC4211. The LTC4211 operates from 2.5V < VCC < 16.5V, and the supply current is typically 1mA. An internal undervoltage lockout circuit disables the device until (See Datasheet)"

## LTC4211CMS#PBF
designator U?
Hot Swap Controller with Multifunction Current Control, 2.5 to 16.5 V Vin, 10-pin SOP (MS-10), 0 to 70 degC, Pb-Free; Manufacturer: Linear Technology; PartNumber: LTC4211CMS#PBF; Active Limiting: no; Circuit Breaker Accuracy(%): 20; Circuit Breaker Threshold: 50 mV; Circuit Breakers(#): 1; Extended Temp: C, I; Fast Comparator: yes; In-Rush Current: Active; DatasheetVersion: Rev. B; PackageVersion: Rev. E, 06/2010; PackageReference: MS-10; PackageDescription: 10-Pin Plastic MSOP, Body 3 x 3 mm, Pitch 0.5 mm; Supplier 1: Digi-Key; Supplier Part Number 1: LTC4211CMS#PBF-ND; Supplier 2: Newark; Supplier Part Number 2: 56M8768; Fault: yes; Foldback: no; Power Good: no; Reset: yes; RoHS: TRUE; Vin Range: 2.5 to 16.5 V; Mounting Technology: Surface Mount; ComponentLink1Description: Manufacturer URL; ComponentLink1URL: http://www.linear.com/; ComponentLink2Description: Datasheet; ComponentLink2URL: http://cds.linear.com/docs/en/datasheet/4211fb.pdf; ComponentLink3Description: Package Specification; ComponentLink3URL: http://cds.linear.com/docs/en/packaging/05081661_F_MS.pdf
footprint LT-MS-10_N (SOP, 10-Leads, Body 3.1x3.1mm, Pitch 0.5mm, IPC Medium Density)
footprint LT-MS-10_L (SOP, 10-Leads, Body 3.1x3.1mm, Pitch 0.5mm, IPC High Density)
footprint LT-MS-10_M (SOP, 10-Leads, Body 3.1x3.1mm, Pitch 0.5mm, IPC Low Density)
pins: 1 ~{RESET} (hiz) "R\E\S\E\T\ (Pin 1/Pin 1): An open-drain output that pulls to GND if the voltage at the FB pin (Pin 5/Pin 6) falls below the FB pin threshold (1.236V). During the start-up cycle, the R\E\S\E\T\ pin goes high impedance at the (See Datasheet)", 2 ON (in) "ON (Pin 2/Pin 2): An active high signal used to enable or disable LTC4211 operation. COMP1’s high-to-low threshold is set at 1.236V and its hysteresis is set at 80mV. If a logic high signal is applied to the ON pin (VON (See Datasheet)", 3 FILTER (in) "FILTER (Not available S8/MS8, Pin 3 MS): Overcurrent Fault Timing Pin and Overvoltage Fault Set pin. With a capacitor connected from this pin to ground, the SLOW COMP’s response time can be adjusted. In the S8/MS8 versio(See Datasheet)", 4 TIMER (in) "TIMER (Pin 3/Pin 4): A capacitor connected from this pin to GND sets the LTC4211’s system timing. The LTC4211’s initial and second start-up timing cycles and its internal “power good?delay time are defined (See Datasheet)", 5 GND (power) "GND (Pin 4/Pin 5): Device Ground Connection. Connect this pin to the system’s analog ground plane.", 6 FB (in) "FB (Pin 5/Pin 6): The FB (Feedback) pin is an input to the COMP2 comparator and monitors the output supply voltage through an external resistor divider. If VFB < 1.236V, the R\E\S\E\T\ pin pulls low. An internal glitch (See Datasheet)", 7 GATE (out) "GATE (Pin 6/Pin 7): The output signal at this pin is the high side gate drive for the external N-channel FET pass transistor. As shown in the Block Diagram, an internal charge pump supplies a 10uA gate current and sufficient (See Datasheet)", 8 SENSE (in) "SENSE (Pin 7/Pin 8): Circuit Breaker Set Pin. With a sense resistor placed in the power path between VCC and SENSE, the LTC4211’s electronic circuit breaker trips if the voltage across the sense resistor exceeds th(See Datasheet)", 9 VCC (power) "VCC (Pin 8/Pin 9): This is the positive supply input to the LTC4211. The LTC4211 operates from 2.5V < VCC < 16.5V, and the supply current is typically 1mA. An internal undervoltage lockout circuit disables the device until (See Datasheet)", 10 ~{FAULT} (io) "F\A\U\L\T\ (Not available on S8/MS8, Pin 10 MS): F\A\U\L\T\ is both an input and an output. Connected to this pin are an analog comparator (COMP6) and an open-drain N-channel FET. During normal operation, if COMP6 is driven (See Datasheet)"